# Altium schematic symbol library ElectroMechanical.SchLib: 6 symbols
Pins are listed as number, name and electrical type; pins without a type are passive.

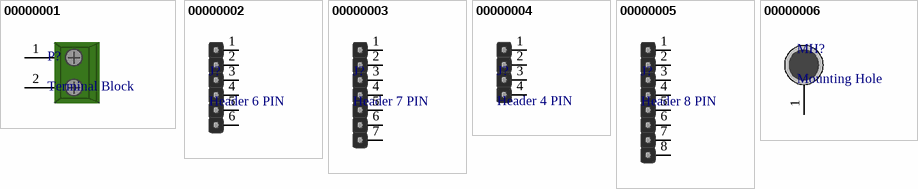
[diagram p0: symbols 00000001 to 00000006]

## 00000001
designator P?, comment Terminal Block
Terminal block 90 deg 5mm 2PIN; ComponentLink1Description: DigiKey; ComponentLink1URL: https://www.digikey.com/en/products/detail/adam-tech/EB20-02-C/9831508; DigiKey part number: 2057-EB20-02-C-ND
footprint TERM_BLOCK 5mm 2PIN
pins: 1 pin1, 2 pin2

## 00000002
designator J?, comment Header 6 PIN
footprint HEADER_6PIN
pins: 1, 2, 3, 4, 5, 6

## 00000003
designator J?, comment Header 7 PIN
footprint HEADER_7PIN
pins: 1, 2, 3, 4, 5, 6, 7

## 00000004
designator J?, comment Header 4 PIN
footprint HEADER_4PIN
pins: 1, 2, 3, 4

## 00000005
designator J?, comment Header 8 PIN
footprint HEADER_8PIN
pins: 1, 2, 3, 4, 5, 6, 7, 8

## 00000006
designator MH?, comment Mounting Hole
Mounting Hole 3mm
footprint HOLE-3mm
pins: 1